# EAGLE library part PIN2X5_127_SMD (library Pinheader)
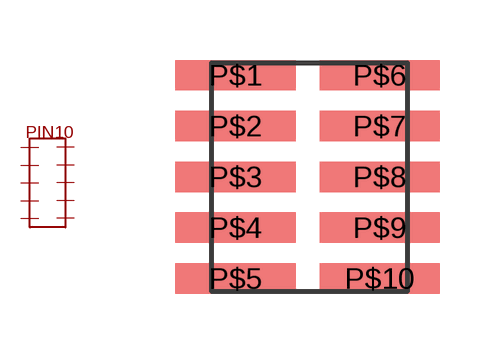
[diagram p0: symbol with the pads of PIN2X5_127_SMD; footprint PIN2X5_127_SMD]

Designator prefix -

## PIN2X5_127_SMD  [PIN2X5_127_SMD]
P$1  P1
P$2  P2
P$3  P3
P$4  P4
P$5  P5
P$6  P6
P$7  P7
P$8  P8
P$9  P9
P$10  P10

## Footprint PIN2X5_127_SMD (pad centres in mm)
smd 3 x 0.76: P$1 -1.802,2.54; P$2 -1.802,1.27; P$3 -1.802,0; P$4 -1.802,-1.27; P$5 -1.802,-2.54; P$6 1.798,2.54; P$7 1.798,1.27; P$8 1.798,0; P$9 1.798,-1.27; P$10 1.798,-2.54